# Altium footprint library Dog_Tag.PcbLib: 9 footprints
Each footprint in its own frame and in the unit in brackets; x right, y up, seen from the top. Pads: shape width x height; smd on the part's side, far side on the other; paste and mask are expansions set on the pad; w line width, h text height; cw(c..) or ccw(c..) is an arc to the next point about the centre after c.
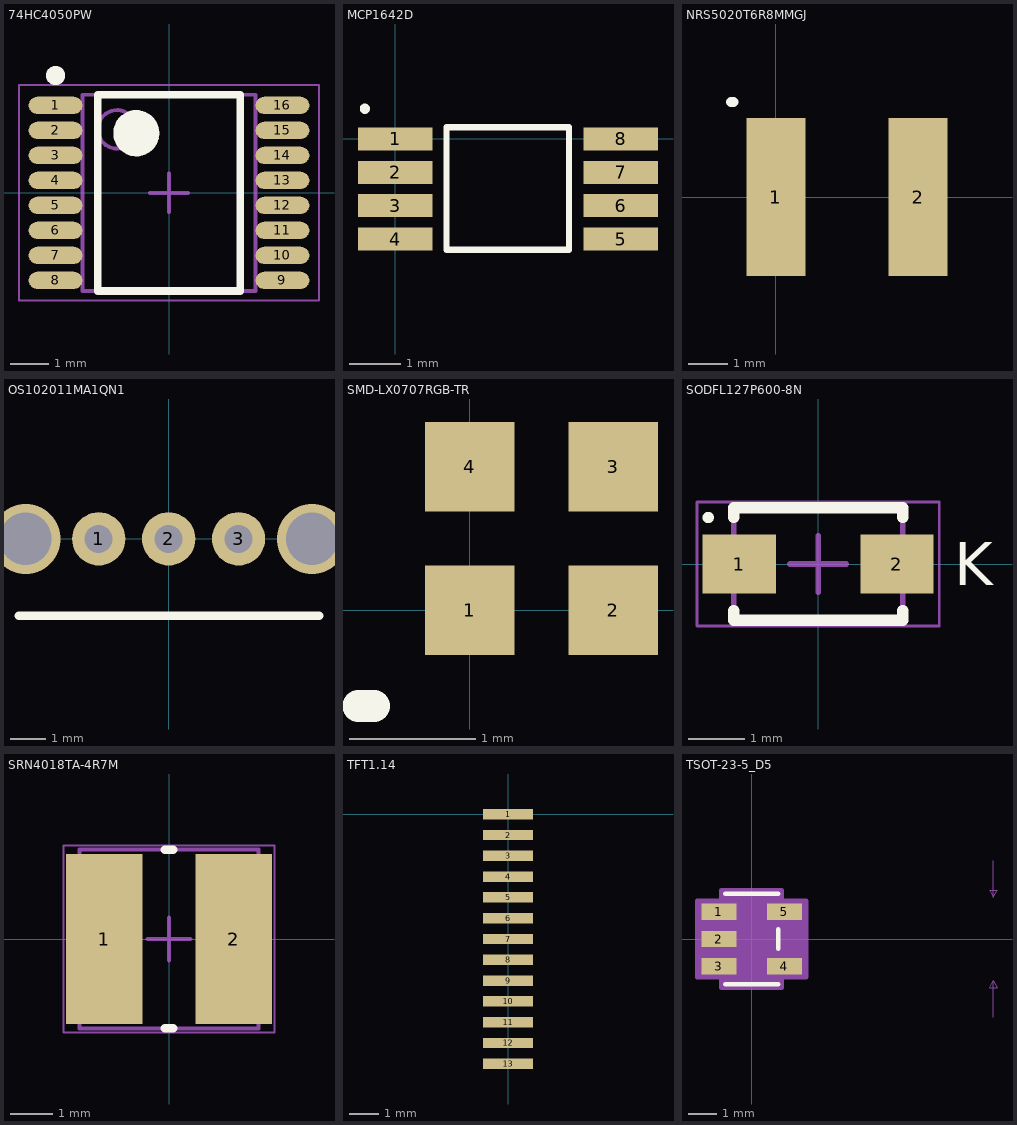
[diagram p0: the footprints below, top view; thin cyan lines are the x and y axes]

## 74HC4050PW [mm] "Buffer, Non-Inverting 6 Element 1 Bit per Element Push-Pull Output 16-TSSOP"
height 1.1
pads (16):
  oval 1.4x0.45 smd: 1(-2.95,2.275) 2(-2.95,1.625) 3(-2.95,0.975) 4(-2.95,0.325) 5(-2.95,-0.325) 6(-2.95,-0.975) 7(-2.95,-1.625) 8(-2.95,-2.275) 9(2.95,-2.275) 10(2.95,-1.625) 11(2.95,-0.975) 12(2.95,-0.325) 13(2.95,0.325) 14(2.95,0.975) 15(2.95,1.625) 16(2.95,2.275)
Top Overlay:
  circle w0.25: c-2.95,3.05 r0.125
  circle w0.6: c-0.85,1.55 r0.3
  lines w0.2: -1.85,-2.55 -1.85,2.55 1.85,2.55 1.85,-2.55 -1.85,-2.55
Mechanical 13:
  circle w0.1: c-1.35,1.65 r0.5
  lines w0.1: -2.25,-2.55 -2.25,2.55 2.25,2.55 2.25,-2.55 -2.25,-2.55
Mechanical 15:
  lines w0.05: -3.9,-2.8 -3.9,2.8 3.9,2.8 3.9,-2.8 -3.9,-2.8
  lines w0.1: -0.5,0 0.5,0 ; 0,-0.5 0,0.5
3D body "SOP127P600-8N.step": height 1.1, standoff 0, extent -3.2,-2.55 3.2,2.55

## MCP1642D [mm] "Boost Switching Regulator IC Positive Adjustable 1.8V 1 Output 800mA 8-TSSOP, 8-MSOP (0.118\", 3.00mm Width)"
pads (8):
  rect 1.45x0.45 smd: 1(0,0) 2(0,-0.65) 3(0,-1.3) 4(0,-1.95) 5(4.4,-1.95) 6(4.4,-1.3) 7(4.4,-0.65) 8(4.4,0)
Top Overlay:
  circle w0.1: c-0.59,0.59 r0.05
  lines w0.125: 1,-2.16 3.39,-2.16 3.39,0.23 1,0.23 1,-2.16

## NRS5020T6R8MMGJ [mm] "Inductor"
height 2
pads (2):
  rect 1.5x4 smd: 1(0,0) 2(3.6,0)
Top Overlay:
  lines w0.254: -1.143,2.413 -1.079,2.413

## OS102011MA1QN1 [mil] "Slide Switch SPDT Through Hole, Right Angle"
pads (3):
  round 60 hole 31.5: 1(-78.74,0) 2(0,0) 3(78.74,0)
via -161.42,0 diameter 78.74 hole 59.06
via 161.42,0 diameter 78.74 hole 59.06
Top Overlay:
  lines w10: -168.5,-86.61 169.29,-86.61
3D body "OS102011MA1QN1.stp": height 187.01, standoff -112.2, extent -169.29,-244.09 169.3,86.62

## SMD-LX0707RGB-TR [mil]
pads (4):
  rect 28x28 smd: 1(0,0) 2(45,0) 3(45,45) 4(0,45)
Top Overlay:
  lines w10: -35,-30 -30,-30

## SODFL127P600-8N [mm] "Schottky 40V 2A"
height 1.08
pads (2):
  rect 1.3x1.05 smd: 1(-1.4,0) 2(1.4,0)
Top Overlay:
  circle w0.1: c-1.95,0.825 r0.05
  lines w0.2: -1.5,-0.825 -1.5,-1 1.5,-1 1.5,-0.825 ; -1.5,0.825 -1.5,1 1.5,1 1.5,0.825
  text "K" at 2.413,-0.381 h0.76
Mechanical 13:
  lines w0.1: -1.5,-0.975 1.5,-0.975 1.5,0.975 -1.5,0.975 -1.5,-0.975
Mechanical 15:
  lines w0.05: -2.15,-1.1 2.15,-1.1 2.15,1.1 -2.15,1.1 -2.15,-1.1
  lines w0.1: -0.5,0 0.5,0 ; 0,-0.5 0,0.5
3D body: height 1.08, standoff 0, extent -1.5,-0.975 1.5,0.975

## SRN4018TA-4R7M [mm] "4.7µH Semi-Shielded Wirewound Inductor 1.7A 70mOhm Nonstandard"
height 1.8
pads (2):
  rect 1.8x4 smd: 1(-1.524,0) 2(1.524,0)
Top Overlay:
  lines w0.2: -0.1,-2.1 0.1,-2.1 ; -0.1,2.1 0.1,2.1
Mechanical 13:
  lines w0.1: -2.1,-2.1 2.1,-2.1 2.1,2.1 -2.1,2.1 -2.1,-2.1
Mechanical 15:
  lines w0.05: -2.475,-2.2 2.475,-2.2 2.475,2.2 -2.475,2.2 -2.475,-2.2
  lines w0.1: -0.5,0 0.5,0 ; 0,-0.5 0,0.5
3D body: height 1.8, standoff 0, extent -2.1,-2.1 2.1,2.1

## TFT1.14 [mm] "LCD Pinout"
pads (13):
  rect 1.7x0.35 smd: 1(0,0) 2(0,-0.7) 3(0,-1.4) 4(0,-2.1) 5(0,-2.8) 6(0,-3.5) 7(0,-4.2) 8(0,-4.9) 9(0,-5.6) 10(0,-6.3) 11(0,-7) 12(0,-7.7) 13(0,-8.4)

## TSOT-23-5_D5 [mil]
pads (5):
  rect 48x22 smd mask+0: 1(-45,37.4) 2(-45,0) 3(-45,-37.4) 4(45,-37.4) 5(45,37.4)
Top Overlay:
  lines w6: -36.5,-62 36.5,-62 ; -36.5,62 36.5,62 ; 36.5,-13.3 36.5,13.3
Mechanical 7:
  lines w1: 331.5,-107 331.5,-57 ; 331.5,107 331.5,57 ; 331.5,-57 336.5,-67 326.5,-67 331.5,-57 ; 331.5,57 336.5,67 326.5,67 331.5,57
  text "0.114in/2.896mm" at 351.5,-12.5 h25
Mechanical 13:
  lines w0: -12,57 ccw(c0,57) 12,57
  lines w1: -55,-47.4 -31.5,-47.4 -31.5,-27.4 -55,-27.4 -55,-47.4 ; -55,-10 -31.5,-10 -31.5,10 -55,10 -55,-10 ; -55,27.4 -31.5,27.4 -31.5,47.4 -55,47.4 -55,27.4 ; -31.5,-57 -31.5,57 31.5,57 31.5,-57 -31.5,-57 ; 31.5,-47.4 55,-47.4 55,-27.4 31.5,-27.4 31.5,-47.4 ; 31.5,27.4 55,27.4 55,47.4 31.5,47.4 31.5,27.4
Mechanical 15:
  region: 41.5,-67 -41.5,-67 -41.5,-52.4 -75,-52.4 -75,52.4 -41.5,52.4 -41.5,67 41.5,67 41.5,52.4 75,52.4 75,-52.4 41.5,-52.4
  lines w6: -75,-52.4 -75,52.4 -41.5,52.4 -41.5,67 41.5,67 41.5,52.4 75,52.4 75,-52.4 41.5,-52.4 41.5,-67 -41.5,-67 -41.5,-52.4 -75,-52.4
3D body "TSOT-23-5_D5-L.step": height 39.09, standoff 0, extent -54.99,-57 55.01,57.01